# EAGLE library part PSC08-XWA (library bodger)
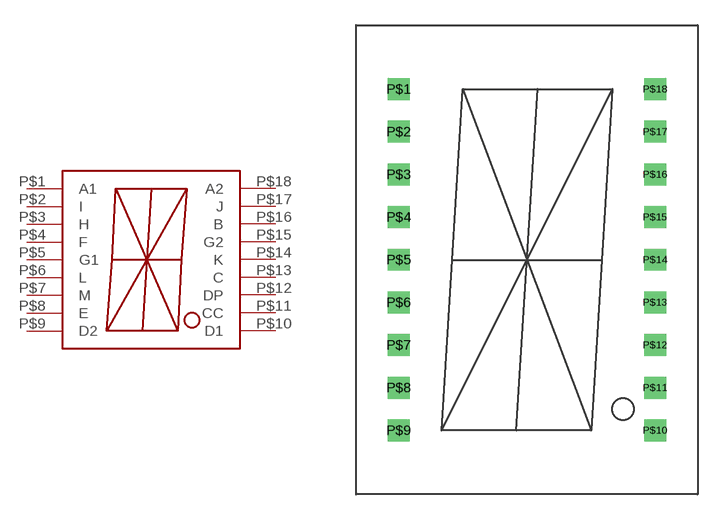
[diagram p20: symbol with the pads of PSC08-11XWA; footprint PSC08-11XWA]

Designator prefix -

## PSC08-XWA  [PSC08-11XWA]
P$1  A1
P$2  I
P$3  H
P$4  F
P$5  G1
P$6  L
P$7  M
P$8  E
P$9  D2
P$10  D1
P$11  CC
P$12  DP
P$13  C
P$14  K
P$15  G2
P$16  B
P$17  J
P$18  A2

## Footprint PSC08-11XWA (pad centres in mm)
drill 0.8 square: P$1 -7.62,10.16; P$2 -7.62,7.62; P$3 -7.62,5.08; P$4 -7.62,2.54; P$5 -7.62,0; P$6 -7.62,-2.54; P$7 -7.62,-5.08; P$8 -7.62,-7.62; P$9 -7.62,-10.16; P$10 7.62,-10.16; P$11 7.62,-7.62; P$12 7.62,-5.08; P$13 7.62,-2.54; P$14 7.62,0; P$15 7.62,2.54; P$16 7.62,5.08; P$17 7.62,7.62; P$18 7.62,10.16